# EAGLE library part 41464C (library memory-jlb)
MEMORY
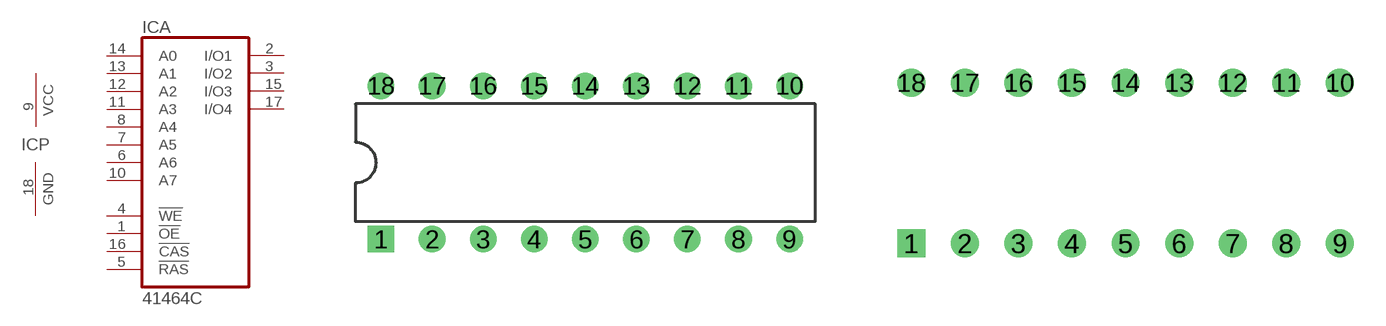
[diagram p1: symbol with the pads of DIL18; footprints DIL18, DIL18_REV]

Designator prefix IC; gates A=41464 P=PWRGND

## 41464C (OC_FARNELL: unknown; OC_NEWARK: unknown)  [DIL18]
1  A:!OE  in
2  A:I/O1
3  A:I/O2
4  A:!WE  in
5  A:!RAS  in
6  A:A6  in
7  A:A5  in
8  A:A4  in
9  P:VCC  pwr
10  A:A7  in
11  A:A3  in
12  A:A2  in
13  A:A1  in
14  A:A0  in
15  A:I/O3
16  A:!CAS  in
17  A:I/O4
18  P:GND  pwr

## 41464C-HDR  [DIL18_REV]
Pads as for DIL18

## Footprint DIL18 (pad centres in mm)
Dual In Line Package
drill 0.813 square: 1 -10.16,-3.81
drill 0.813: 2 -7.62,-3.81; 3 -5.08,-3.81; 4 -2.54,-3.81; 5 0,-3.81; 6 2.54,-3.81; 7 5.08,-3.81; 8 7.62,-3.81; 9 10.16,-3.81; 10 10.16,3.81; 11 7.62,3.81; 12 5.08,3.81; 13 2.54,3.81; 14 0,3.81; 15 -2.54,3.81; 16 -5.08,3.81; 17 -7.62,3.81; 18 -10.16,3.81

## Footprint DIL18_REV (pad centres in mm)
Dual In Line Package
drill 0.813 square: 1 -10.16,-3.81
drill 0.813: 2 -7.62,-3.81; 3 -5.08,-3.81; 4 -2.54,-3.81; 5 0,-3.81; 6 2.54,-3.81; 7 5.08,-3.81; 8 7.62,-3.81; 9 10.16,-3.81; 10 10.16,3.81; 11 7.62,3.81; 12 5.08,3.81; 13 2.54,3.81; 14 0,3.81; 15 -2.54,3.81; 16 -5.08,3.81; 17 -7.62,3.81; 18 -10.16,3.81